# EAGLE library part KK156-06 (library con-molex-kk)
HEADER
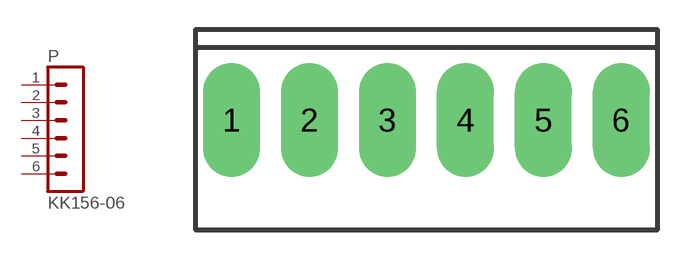
[diagram p160: symbol with the pads of KK156-06; footprint KK156-06]

Designator prefix P

## KK156-06  [KK156-06]
1  1  pas
2  2  pas
3  3  pas
4  4  pas
5  5  pas
6  6  pas

## Footprint KK156-06 (pad centres in mm)
HEADER - 0.156" SPOX 5273 Series
drill 1.93 long: 1 -9.906,0; 2 -5.944,0; 3 -1.981,0; 4 1.981,0; 5 5.944,0; 6 9.906,0